# Altium footprint library RESISTOR_1020.PcbLib: 1 footprints
Each footprint in its own frame and in the unit in brackets; x right, y up, seen from the top. Pads: shape width x height; smd on the part's side, far side on the other; paste and mask are expansions set on the pad; w line width, h text height; cw(c..) or ccw(c..) is an arc to the next point about the centre after c.
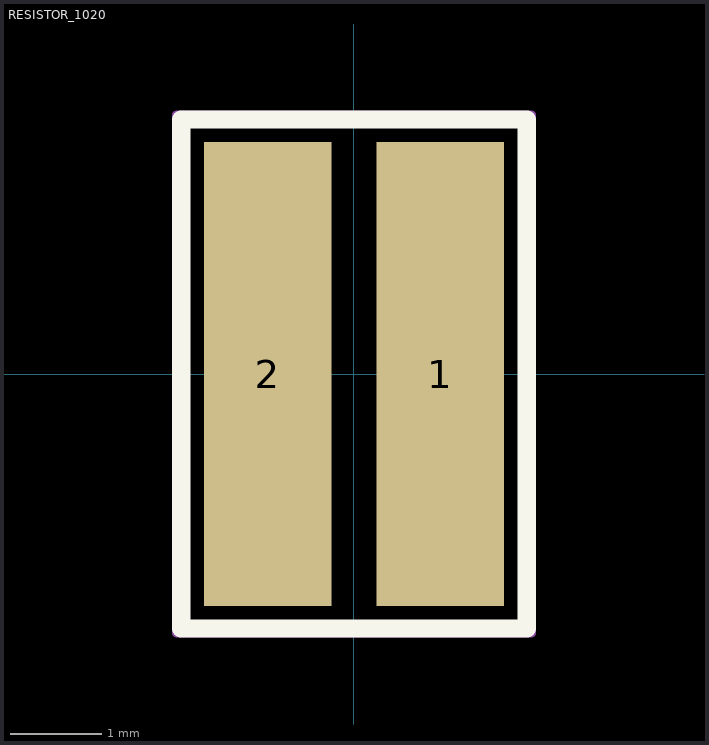
[diagram p0: the footprint, top view; thin cyan lines are the x and y axes]

## RESISTOR_1020 [mm]
pads (2):
  rect 1.4x5.1 smd: 1(0.95,0) 2(-0.95,0)
Top Overlay:
  lines w0.2: -1.9,-2.8 1.9,-2.8 1.9,2.8 -1.9,2.8 -1.9,-2.8
Top Courtyard:
  lines w0.1: -1.95,-2.85 1.95,-2.85 1.95,2.85 -1.95,2.85 -1.95,-2.85
3D body "step_temp.STEP": height 0.55, standoff 0, extent -1.25,-2.5 1.25,2.5